# Altium schematic symbol library Powersch.SchLib: 30 symbols
Pins are listed as number, name and electrical type; pins without a type are passive.

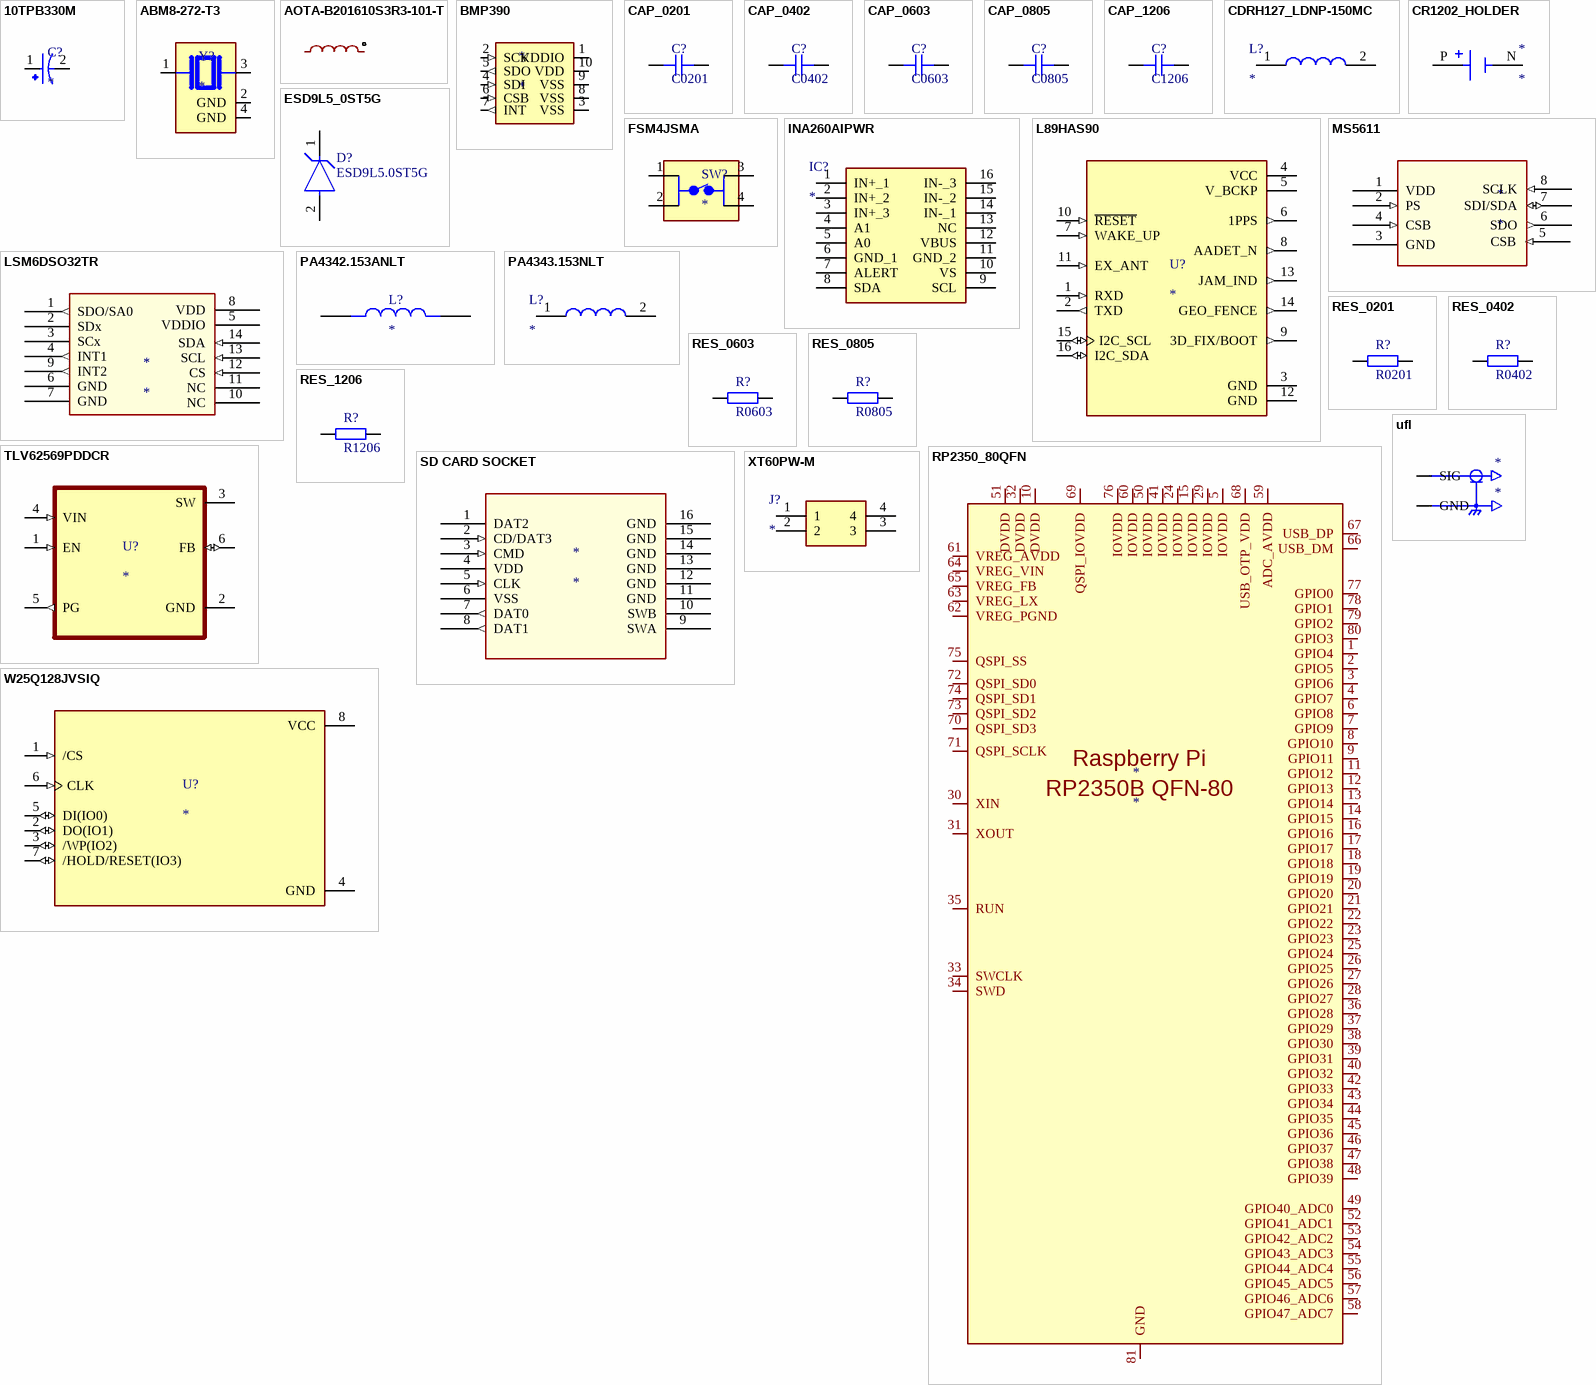
[diagram p0: symbols 10TPB330M to XT60PW-M]

## 10TPB330M
designator C?
MP: 10TPB330M; Price: None; Availability: Unavailable; Value: *; Package: None
footprint CAP_10TPB330M
pins: 1, 2

## ABM8-272-T3
designator Y?
12 MHz Â±30ppm Crystal 10pF 50 Ohms 4-SMD, No Lead; MF: ABRACON; MP: ABM8-272-T3; SnapEDA_Link: https://www.snapeda.com/parts/ABM8-272-T3/Abracon/view-part/?ref=snap; Package: NON-STANDARD-4 Abracon; Value: *; Check_prices: https://www.snapeda.com/parts/ABM8-272-T3/Abracon/view-part/?ref=eda
footprint XTAL_ABM8-272-T3
pins: 1, 2 GND (power), 3, 4 GND (power)

## AOTA-B201610S3R3-101-T
designator L??, comment 3.3uH  (value not drawn)
Manufacturer: ABRACON; Symbol: AOTA-B201610S3R3-101-T; Add into BOM: yes; Current Rating: 2.1A; Current - Saturation(Isat): 2.4A; DC Resistance(DCR): 115mΩ; Type: Molded Inductor; Device: AOTA-B201610S3R3-101-T; LCSC Part Name: 3.3uH 2.4A; Supplier Part: C42411119; Manufacturer Part: AOTA-B201610S3R3-101-T; Supplier Footprint: 0806; JLCPCB Part Class: Extended Part; Datasheet: https://item.szlcsc.com/datasheet/AOTA-B201610S3R3-101-T/44392932.html; Supplier: LCSC; Convert to PCB: yes; Value: 3.3uH
footprint IND-SMD_L2.0-W1.6_AOTA-B201610S3R3-101-T
3D model IND-SMD_L2.0-W1.6_AOTA-B201610S3R3-101-T
pins: 1, 2

## BMP390
designator *
footprint BMP390
pins: 1 VDDIO (power), 2 SCK (in), 3 VSS (power), 4 SDI (in), 5 SDO (out), 6 CSB (in), 7 INT (out), 8 VSS (power), 9 VSS (power), 10 VDD (power)

## CAP_0201
designator C?, comment C0201
Capacitor SMD 0201; Manufacturer: *; Manufacturer Part Number: *; Distributor Link: *; LCSC: *; Rating: *; Dielectric: *
footprint CAP_0201
pins: 1, 2

## CAP_0402
designator C?, comment C0402
Capacitor SMD 0402; Manufacturer: *; Manufacturer Part Number: *; Distributor Link: *; LCSC: *; Rating: *; Dielectric: *
footprint CAP_0402
pins: 1, 2

## CAP_0603
designator C?, comment C0603
Capacitor SMD 0603; Manufacturer: *; Manufacturer Part Number: *; Distributor Link: *; LCSC: *; Rating: *; Dielectric: *
footprint CAP_0603
pins: 1, 2

## CAP_0805
designator C?, comment C0805
Capacitor SMD 0805; Manufacturer: *; Manufacturer Part Number: *; Distributor Link: *; LCSC: *; Rating: *; Dielectric: *
footprint CAP_0805
pins: 1, 2

## CAP_1206
designator C?, comment C1206
Capacitor SMD 1206; Manufacturer: *; Manufacturer Part Number: *; Distributor Link: *; LCSC: *; Rating: *; Dielectric: *
footprint CAP_1206
pins: 1, 2

## CDRH127_LDNP-150MC
designator L?
Inductor; Manufacturer_Name: Sumida; Manufacturer_Part_Number: CDRH127/LDNP-150MC; Datasheet Link: https://componentsearchengine.com/Datasheets/1/CDRH127_LDNP-150MC.pdf; Height: 8mm; Mouser Part Number: 851-CDRH127LDNP150MC; Mouser Price/Stock: https://www.mouser.co.uk/ProductDetail/Sumida/CDRH127-LDNP-150MC?qs=UC6tolJH7OiTViEpne7nQQ%3D%3D; Arrow Part Number: CDRH127/LDNP-150MC; Arrow Price/Stock: https://www.arrow.com/en/products/cdrh127ldnp-150mc/sumida?utm_currency=USD&region=nac
footprint INDPM120120X800N
pins: 1, 2

## CR1202_HOLDER
designator *
footprint CR1220_CELL_HOLDER
pins: N NEG, P POS

## ESD9L5_0ST5G
designator D?, comment ESD9L5.0ST5G
NexarPartId: 6987432; Manufacturer Lifecycle Status: ACTIVE; Polarity: Unidirectional; Max Surge Current: 1A; Reverse Standoff Voltage: 5V; ESD Protection: Yes; Capacitance: 500fF; Power Line Protection: No; Test Current: 1mA; Max Reverse Leakage Current: 1µA; Peak Pulse Power: 150mW; Clamping Voltage: 9.8V; Number of Unidirectional Channels: 1; Element Configuration: Single; Min Breakdown Voltage: 5.4V; Max Junction Temperature (Tj): 150°C; Reverse Breakdown Voltage: 5.8V; Length: 800µm; Min Operating Temperature: -55°C; Packaging: Tape and Reel; Width: 650µm; Height: 400µm; RoHS: Compliant; Number of Pins: 2; Lifecycle Status: Production; Schedule B: 8536300000; Operating Supply Voltage: 5V; Termination: SMD/SMT; Power Dissipation: 150mW; Direction: Unidirectional; Depth: 600µm; Composition: Zener; Lead Free: Lead Free; Contact Plating: Tin; Number of Lines: 1; Peak Pulse Current: 1A; REACH SVHC: No SVHC; Number of Channels: 1; Radiation Hardening: No; Number of Elements: 1; Max Operating Temperature: 150°C; Max Breakdown Voltage: 5.4V; Case/Package: SOD-923-2; Breakdown Voltage: 5.4V; Halogen Free: Halogen Free; Leakage Current: 1µA; Working Voltage: 5V
footprint On_Semiconductor_514AB_MFG (ESD9L5 Series 5 Vrwm Low Capacitance ESD Protection Uni-Directional - SOD-923)
pins: 1 C, 2 A

## FSM4JSMA
designator SW?
Tactile Switch SPST-NO Top Actuated Surface Mount; MF: TE Connectivity; MP: FSM-4J-SMA; SnapEDA_Link: https://www.snapeda.com/parts/FSM-4J-SMA/TE+Connectivity+ALCOSWITCH+Switches/view-part/?ref=snap; Package: None; Value: *; Check_prices: https://www.snapeda.com/parts/FSM-4J-SMA/TE+Connectivity+ALCOSWITCH+Switches/view-part/?ref=eda
footprint TE_FSM4JSMA
pins: 1, 2, 3, 4

## INA260AIPWR
designator IC?
Integrated Circuit; Manufacturer_Name: Texas Instruments; Manufacturer_Part_Number: INA260AIPWR; Datasheet Link: http://www.ti.com/lit/gpn/INA260; Height: 1.2mm; Mouser Part Number: 595-INA260AIPWR; Mouser Price/Stock: https://www.mouser.co.uk/ProductDetail/Texas-Instruments/INA260AIPWR?qs=vcbl%252BK4rRldNzXQDYx03SQ%3D%3D; Arrow Part Number: INA260AIPWR; Arrow Price/Stock: https://www.arrow.com/en/products/ina260aipwr/texas-instruments.html?utm_currency=USD&region=nac
footprint SOP65P640X120-16N
pins: 1 IN+_1, 2 IN+_2, 3 IN+_3, 4 A1, 5 A0, 6 GND_1, 7 ALERT, 8 SDA, 9 SCL, 10 VS, 11 GND_2, 12 VBUS, 13 NC, 14 IN-_1, 15 IN-_2, 16 IN-_3

## L89HAS90
designator U?
L89 is a high performance IRNSS-enabled GNSS module, capable of acquiring and tracing GPS, IRNSS, GLONASS, BeiDou, Galileo and QZSS signals.; MF: Quectel; MP: L89HAS90; Value: *; Check_prices: https://www.snapeda.com/parts/L89HAS90/Quectel/view-part/?ref=eda; Purchase-URL: https://pricing.snapeda.com/search/part/L89HAS90/?ref=eda; SnapEDA_Link: https://www.snapeda.com/parts/L89HAS90/Quectel/view-part/?ref=snap; Package: Custom Quectel; Digi-Key_Part_Number: 2958-L89HA-S90TR-ND
footprint XCVR_L89HAS90
pins: 1 RXD (in), 2 TXD (out), 3 GND (power), 4 VCC (power), 5 V_BCKP (power), 6 1PPS (out), 7 WAKE_UP (in), 8 AADET_N (out), 9 3D_FIX/BOOT (out), 10 ~{RESET} (in), 11 EX_ANT (in), 12 GND (power), 13 JAM_IND (out), 14 GEO_FENCE (out), 15 I2C_SCL (io), 16 I2C_SDA (io)

## LSM6DSO32TR
designator *
footprint LSM6DSO32TR
pins: 1 SDO/SA0 (out), 2 SDx, 3 SCx, 4 INT1 (out), 5 VDDIO (power), 6 GND (power), 7 GND (power), 8 VDD (power), 9 INT2 (out), 10 NC, 11 NC, 12 CS (in), 13 SCL (in), 14 SDA (in)

## MS5611
designator *
footprint MS5611
pins: 1 VDD (power), 2 PS (in), 3 GND (power), 4 CSB (in), 5 CSB (in), 6 SDO (out), 7 SDI/SDA (io), 8 SCLK (in)

## PA4342.153ANLT
designator L?
MF: {'manufacturer': u'Pulse Electronics'}; MP: PA4342.153ANLT; Package: None; Price: None; Value: *; Availability: Unavailable
footprint IND_PA4342.153ANLT
pins: 1, 2

## PA4343.153NLT
designator L?
Inductor; Manufacturer_Name: Yageo Group; Manufacturer_Part_Number: PA4343.153NLT; Description: PULSE ELECTRONICS - PA4343.153NLT - INDUCTOR; Datasheet Link: https://datasheet.datasheetarchive.com/originals/distributors/DKDS-10/182394.pdf; Height: 6.5mm; Mouser Part Number: 673-PA4343.153NLT; Mouser Price/Stock: https://www.mouser.co.uk/ProductDetail/Pulse-Electronics/PA4343153NLT?qs=%2FzQKu7YvIMa1YhPbm59etw%3D%3D; Arrow Part Number: PA4343.153NLT; Arrow Price/Stock: https://www.arrow.com/en/products/pa4343.153nlt/pulse-electronics-corporation
footprint INDPM140128X650N
pins: 1, 2

## RES_0201
designator R?, comment R0201
Resistor SMD 0201; Manufacturer: *; Manufacturer Part Number: *; Distributor Link: *; LCSC: *
footprint RES_0201
pins: 1, 2

## RES_0402
designator R?, comment R0402
Resistor SMD 0402; Manufacturer: *; Manufacturer Part Number: *; Distributor Link: *; LCSC: *
footprint RES_0402
pins: 1, 2

## RES_0603
designator R?, comment R0603
Resistor SMD 0603; Manufacturer: *; Manufacturer Part Number: *; Distributor Link: *; LCSC: *
footprint RES_0603
pins: 1, 2

## RES_0805
designator R?, comment R0805
Resistor SMD 0805; Manufacturer: *; Manufacturer Part Number: *; Distributor Link: *; LCSC: *
footprint RES_0805
pins: 1, 2

## RES_1206
designator R?, comment R1206
Resistor SMD 1206; Manufacturer: *; Manufacturer Part Number: *; Distributor Link: *; LCSC: *
footprint RES_1206
pins: 1, 2

## RP2350_80QFN
designator *
pins: 1 GPIO4, 2 GPIO5, 3 GPIO6, 4 GPIO7, 5 IOVDD, 6 GPIO8, 7 GPIO9, 8 GPIO10, 9 GPIO11, 10 DVDD, 11 GPIO12, 12 GPIO13, 13 GPIO14, 14 GPIO15, 15 IOVDD, 16 GPIO16, 17 GPIO17, 18 GPIO18, 19 GPIO19, 20 GPIO20, 21 GPIO21, 22 GPIO22, 23 GPIO23, 24 IOVDD, 25 GPIO24, 26 GPIO25, 27 GPIO26, 28 GPIO27, 29 IOVDD, 30 XIN, 31 XOUT, 32 DVDD, 33 SWCLK, 34 SWD, 35 RUN, 36 GPIO28, 37 GPIO29, 38 GPIO30, 39 GPIO31, 40 GPIO32, 41 IOVDD, 42 GPIO33, 43 GPIO34, 44 GPIO35, 45 GPIO36, 46 GPIO37, 47 GPIO38, 48 GPIO39, 49 GPIO40_ADC0, 50 IOVDD, 51 DVDD, 52 GPIO41_ADC1, 53 GPIO42_ADC2, 54 GPIO43_ADC3, 55 GPIO44_ADC4, 56 GPIO45_ADC5, 57 GPIO46_ADC6, 58 GPIO47_ADC7, 59 ADC_AVDD, 60 IOVDD, 61 VREG_AVDD, 62 VREG_PGND, 63 VREG_LX, 64 VREG_VIN, 65 VREG_FB, 66 USB_DM, 67 USB_DP, 68 USB_OTP_VDD, 69 QSPI_IOVDD, 70 QSPI_SD3, 71 QSPI_SCLK, 72 QSPI_SD0, 73 QSPI_SD2, 74 QSPI_SD1, 75 QSPI_SS, 76 IOVDD, 77 GPIO0, 78 GPIO1, 79 GPIO2, 80 GPIO3, 81 GND
text: Raspberry Pi; RP2350B QFN-80

## SD CARD SOCKET
designator *
footprint SD CARD SOCKET
pins: 1 DAT2, 2 CD/DAT3 (in), 3 CMD (in), 4 VDD (power), 5 CLK (in), 6 VSS (power), 7 DAT0 (out), 8 DAT1 (out), 9 SWA, 10 SWB, 11 GND (power), 12 GND (power), 13 GND (power), 14 GND (power), 15 GND (power), 16 GND (power)

## TLV62569PDDCR
designator U?
2.5V-5.5V input, 2-A high efficiency step-down buck converter in SOT23 and SOT563 package; MF: Texas Instruments; MP: TLV62569PDDCR; SnapEDA_Link: https://www.snapeda.com/parts/TLV62569PDDCR/Texas+Instruments/view-part/?ref=snap; Package: SOT-23-THN-6 Texas Instruments; Value: *; Check_prices: https://www.snapeda.com/parts/TLV62569PDDCR/Texas+Instruments/view-part/?ref=eda
footprint SOT95P280X110-6N
pins: 1 EN (in), 2 GND (power), 3 SW (power), 4 VIN (in), 5 PG (out), 6 FB (io)

## ufl
designator *
footprint UFL
pins: 1 GND, 2 GND, 3 SIG

## W25Q128JVSIQ
designator U?
FLASH - NOR Memory IC 128Mb (16M x 8) SPI - Quad I/O, QPI, DTR 133 MHz 8-SOIC; MF: Winbond Electronics; MP: W25Q128JVSIQ; SnapEDA_Link: https://www.snapeda.com/parts/W25Q128JVSIQ/Winbond/view-part/?ref=snap; Package: SOIC-8 Winbond Electronics; Value: *; Check_prices: https://www.snapeda.com/parts/W25Q128JVSIQ/Winbond/view-part/?ref=eda
footprint SOIC127P790X216-8N
pins: 1 /CS (in), 2 DO(IO1) (io), 3 /WP(IO2) (io), 4 GND (power), 5 DI(IO0) (io), 6 CLK (in), 7 /HOLD/RESET(IO3) (io), 8 VCC (power)

## XT60PW-M
designator J?
Connector; Manufacturer_Name: Changzou Amass Elec; Manufacturer_Part_Number: XT60PW-M; Datasheet Link: https://www.tme.eu/Document/9b8d0c5eb7094295f3d3112c214d3ade/XT60PW%20SPEC.pdf; Height: 8.4mm
footprint XT60PWM
pins: 1, 2, 3, 4